# EAGLE library part RTC (library word_clock)
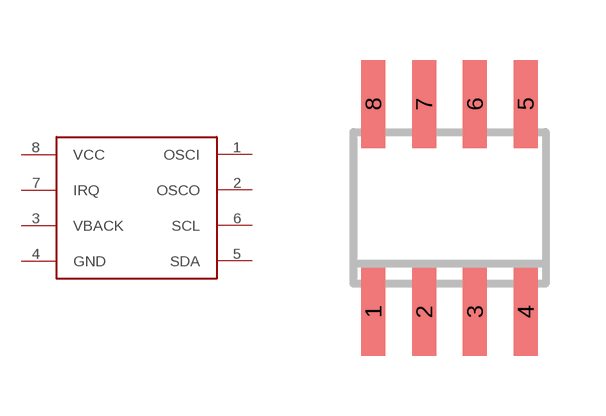
[diagram p1: symbol with the pads of SOIC8; footprint SOIC8]

Designator prefix -

## RTC  [SOIC8]
1  OSCI
2  OSCO
3  VBACK
4  GND
5  SDA
6  SCL
7  IRQ
8  VCC

## Footprint SOIC8 (pad centres in mm)
Small Outline IC
smd 0.6 x 2.2: 1 -1.905,-2.6; 2 -0.635,-2.6; 3 0.635,-2.6; 4 1.905,-2.6; 5 1.905,2.6; 6 0.635,2.6; 7 -0.635,2.6; 8 -1.905,2.6